# EAGLE library part ETH-POE (library ethernet_poe)
POE
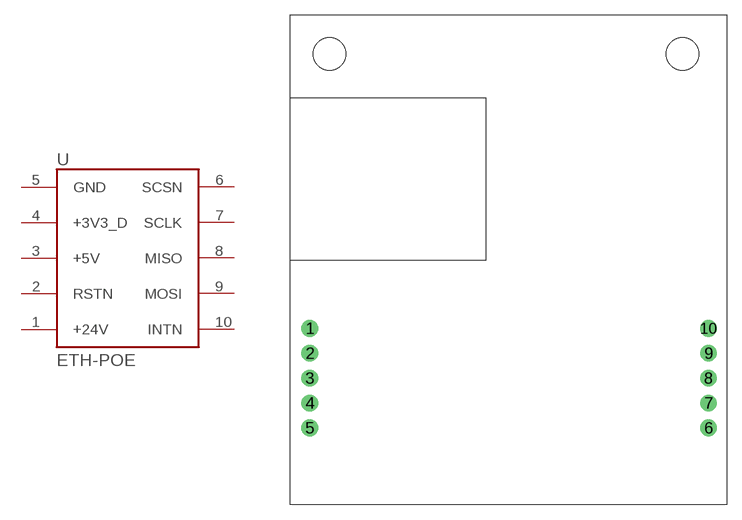
[diagram p4: symbol with the pads of HDRVR10W64P4000X254_2X5_1016X508X254B; footprint HDRVR10W64P4000X254_2X5_1016X508X254B]

Designator prefix -

## ETH-POE  [HDRVR10W64P4000X254_2X5_1016X508X254B]
1  +24V  pas
2  RSTN  pas
3  +5V  pas
4  +3V3_D  pas
5  GND  pas
6  SCSN  pas
7  SCLK  pas
8  MISO  pas
9  MOSI  pas
10  INTN  pas

## Footprint HDRVR10W64P4000X254_2X5_1016X508X254B (pad centres in mm)
Double-row, 10-pin Receptacle Header (Female) Straight, 40.00 mm (1.57 in) row pitch, 2.54 mm (0.10 in) col pitch, 2.54 mm insulator length, 10.16 X 5.08 X 2.54 mm body Double-row (2X5), 10-pin Receptacle Header (Female) Straight package with 40.00 mm (1.57 in) row pitch, 2.54 mm (0.10 in) col pitch, 0.64 mm lead width, 3.00 mm tail length and 2.54 mm insulator length with overall size 10.16 X 5.08 X 2.54 mm, pin pattern - clockwise from top left
drill 1.105 pad 1.705: 1 -20.86,-6.13; 2 -20.86,-8.67; 3 -20.86,-11.21; 4 -20.86,-13.75; 5 -20.86,-16.29; 6 19.78,-16.29; 7 19.78,-13.75; 8 19.78,-11.21; 9 19.78,-8.67; 10 19.78,-6.13
hole 3.3 at -18.86,21.87
hole 3.3 at 17.14,21.87